# Altium schematic symbol library Schlib1.SchLib: 2 symbols
Pins are listed as number, name and electrical type; pins without a type are passive.

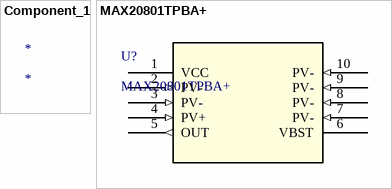
[diagram p0: symbols Component_1 to MAX20801TPBA+]

## Component_1
designator *

## MAX20801TPBA+
designator U?
No Description Available; Mfr_Name: Maxim Integrated Products; Copyright: Copyright (C) 2022 Ultra Librarian. All rights reserved.; Manufacturer_Part_Number: MAX20801TPBA+; RefDes: RefDes; Type: DEV
footprint 21-100119_MXM
pins: 1 VCC (power), 2 PV- (in), 3 PV- (in), 4 PV+ (in), 5 OUT (out), 6 VBST (power), 7 PV- (in), 8 PV- (in), 9 PV- (in), 10 PV- (in)